# EAGLE library part LM5005 (library TI)
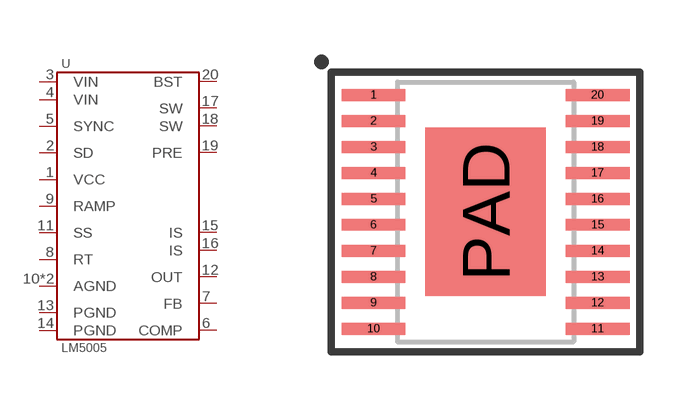
[diagram p35: symbol with the pads of HTSSOP-20; footprint HTSSOP-20]

Designator prefix U

## LM5005MHX/NOPB  [HTSSOP-20]
1  VCC
2  SD
3  VIN
4  VIN
5  SYNC
6  COMP
7  FB
8  RT
9  RAMP
10  AGND
11  SS
12  OUT
13  PGND
14  PGND
15  IS
16  IS
17  SW
18  SW
19  PRE
20  BST
PAD  AGND

## Footprint HTSSOP-20 (pad centres in mm)
smd 1.6 x 0.3: 1 -2.8,2.925; 2 -2.8,2.275; 3 -2.8,1.625; 4 -2.8,0.975; 5 -2.8,0.325; 6 -2.8,-0.325; 7 -2.8,-0.975; 8 -2.8,-1.625; 9 -2.8,-2.275; 10 -2.8,-2.925; 11 2.8,-2.925; 12 2.8,-2.275; 13 2.8,-1.625; 14 2.8,-0.975; 15 2.8,-0.325; 16 2.8,0.325; 17 2.8,0.975; 18 2.8,1.625; 19 2.8,2.275; 20 2.8,2.925
smd 3 x 4.2: PAD 0,0